# Altium footprint library dsub_pcb.PcbLib: 25 footprints (part 2 of 2)
Each footprint in its own frame and in the unit in brackets; x right, y up, seen from the top. Pads: shape width x height; smd on the part's side, far side on the other; paste and mask are expansions set on the pad; w line width, h text height; cw(c..) or ccw(c..) is an arc to the next point about the centre after c.
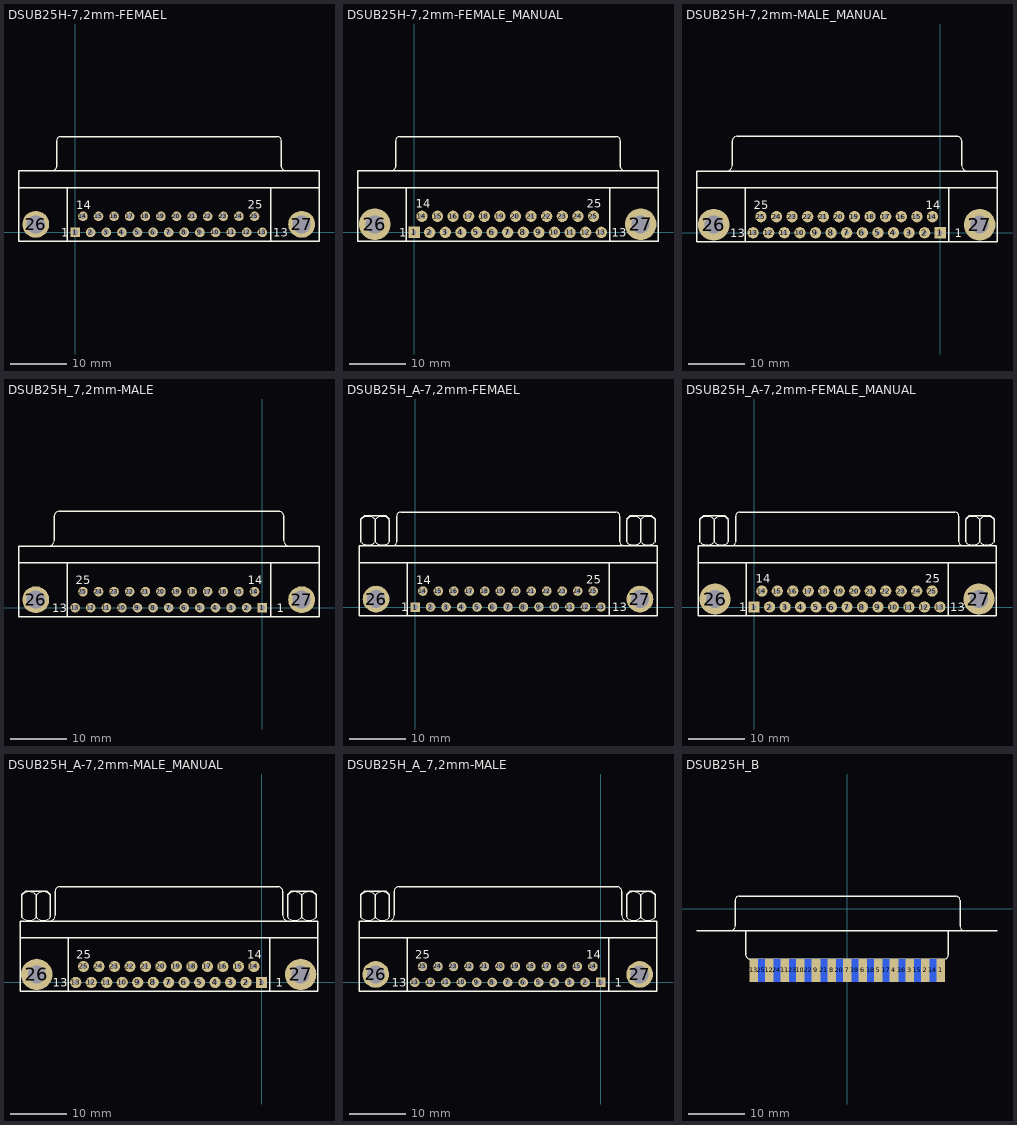
[diagram p1: the footprints below, top view; thin cyan lines are the x and y axes]

## DSUB25H-7,2mm-FEMAEL [mm]
height 12.55
pads (27):
  rect 1.7x1.7 hole 1: 1(0,0)
  round 1.7 hole 1: 2(2.761,0) 3(5.522,0) 4(8.283,0) 5(11.044,0) 6(13.805,0) 7(16.566,0) 8(19.327,0) 9(22.088,0) 10(24.849,0) 11(27.61,0) 12(30.371,0) 13(33.132,0) 14(1.381,2.84) 15(4.142,2.84) 16(6.903,2.84) 17(9.664,2.84) 18(12.424,2.84) 19(15.185,2.84) 20(17.946,2.84) 21(20.707,2.84) 22(23.469,2.84) 23(26.23,2.84) 24(28.991,2.84) 25(31.752,2.84)
  round 4.76 hole 3.2: 26(-6.96,1.42) 27(40.092,1.42)
Top Overlay:
  lines w0.2: -3.975,10.925 ccw(c-3.975,11.62) -3.28,11.62 ; -3.275,16.225 cw(c-2.58,16.225) -2.58,16.92 ; 35.82,16.92 cw(c35.82,16.225) 36.515,16.225 ; 36.52,11.62 ccw(c37.215,11.62) 37.215,10.925
  lines w0.254: -9.93,7.92 43.17,7.92 ; -3.28,11.62 -3.28,16.22 ; -2.58,16.92 35.82,16.92 ; -1.38,-1.58 -1.38,7.92 ; 34.62,-1.58 34.62,7.92 ; 36.52,11.62 36.52,16.22 ; -9.93,-1.58 43.17,-1.58 43.17,10.92 -9.93,10.92 -9.93,-1.58
  text "1" at -2.484,-0.764 h1.5
  text "13" at 35.108,-0.764 h1.5
  text "14" at 0.183,4.062 h1.5
  text "25" at 30.536,4.189 h1.5
3D body "D-Sub-K122439032-Stig-Wahlstrom.STEP": height 12.55, standoff -3.75, extent -9.991,-1.399 43.109,17.001

## DSUB25H-7,2mm-FEMALE_MANUAL [mm]
height 12.55
pads (27):
  rect 2x2 hole 0.8: 1(0,0)
  round 2 hole 0.8: 2(2.761,0) 3(5.522,0) 4(8.283,0) 5(11.044,0) 6(13.805,0) 7(16.566,0) 8(19.327,0) 9(22.088,0) 10(24.849,0) 11(27.61,0) 12(30.371,0) 13(33.132,0) 14(1.381,2.84) 15(4.142,2.84) 16(6.903,2.84) 17(9.664,2.84) 18(12.424,2.84) 19(15.185,2.84) 20(17.946,2.84) 21(20.707,2.84) 22(23.469,2.84) 23(26.23,2.84) 24(28.991,2.84) 25(31.752,2.84)
  round 5.6 hole 3.2: 26(-6.96,1.42) 27(40.092,1.42)
Top Overlay:
  lines w0.2: -3.975,10.925 ccw(c-3.975,11.62) -3.28,11.62 ; -3.275,16.225 cw(c-2.58,16.225) -2.58,16.92 ; 35.82,16.92 cw(c35.82,16.225) 36.515,16.225 ; 36.52,11.62 ccw(c37.215,11.62) 37.215,10.925
  lines w0.254: -9.93,7.92 43.17,7.92 ; -3.28,11.62 -3.28,16.22 ; -2.58,16.92 35.82,16.92 ; -1.38,-1.58 -1.38,7.92 ; 34.62,-1.58 34.62,7.92 ; 36.52,11.62 36.52,16.22 ; -9.93,-1.58 -9.93,10.92 43.17,10.92 43.17,-1.58 -9.93,-1.58
  text "25" at 30.536,4.316 h1.5
  text "14" at 0.31,4.316 h1.5
  text "13" at 34.981,-0.764 h1.5
  text "1" at -2.611,-0.764 h1.5
3D body "D-Sub-K122439032-Stig-Wahlstrom.STEP": height 12.55, standoff -3.75, extent -9.991,-1.399 43.109,17.001

## DSUB25H-7,2mm-MALE_MANUAL [mm]
height 12.55
pads (27):
  rect 2x2 hole 0.8: 1(0,0)
  round 2 hole 0.8: 2(-2.761,0) 3(-5.522,0) 4(-8.283,0) 5(-11.044,0) 6(-13.805,0) 7(-16.566,0) 8(-19.327,0) 9(-22.088,0) 10(-24.849,0) 11(-27.61,0) 12(-30.371,0) 13(-33.132,0) 14(-1.38,2.84) 15(-4.141,2.84) 16(-6.902,2.84) 17(-9.663,2.84) 18(-12.424,2.84) 19(-15.185,2.84) 20(-17.946,2.84) 21(-20.707,2.84) 22(-23.468,2.84) 23(-26.229,2.84) 24(-28.99,2.84) 25(-31.751,2.84)
  round 5.6 hole 3.2: 26(-40.092,1.42) 27(6.96,1.42)
Top Overlay:
  lines w0.2: -37.769,10.975 ccw(c-37.769,11.932) -36.812,11.932 ; -36.812,16.245 cw(c-35.997,16.245) -35.997,17.06 ; 2.965,17.06 cw(c2.965,16.245) 3.78,16.245 ; 3.78,11.932 ccw(c4.737,11.932) 4.737,10.975
  lines w0.254: -43.062,7.92 10.038,7.92 ; -36.812,11.932 -36.812,16.245 ; -35.997,17.047 3.034,17.047 ; -34.512,-1.58 -34.512,7.92 ; 1.488,-1.58 1.488,7.92 ; 3.78,11.932 3.78,16.245 ; -43.062,-1.58 10.038,-1.58 10.038,10.92 -43.062,10.92 -43.062,-1.58
  text "1" at 2.54,-0.762 h1.5
  text "13" at -37.211,-0.762 h1.5
  text "14" at -2.54,4.191 h1.5
  text "25" at -33.02,4.191 h1.5
3D body "D-Sub-K122439042-Stig-Wahlstrom.STEP": height 12.55, standoff -3.75, extent -43.116,-1.399 9.984,17.001

## DSUB25H_7,2mm-MALE [mm]
height 12.55
pads (27):
  rect 1.7x1.7 hole 1: 1(0,0)
  round 1.7 hole 1: 2(-2.761,0) 3(-5.522,0) 4(-8.283,0) 5(-11.044,0) 6(-13.805,0) 7(-16.566,0) 8(-19.327,0) 9(-22.088,0) 10(-24.849,0) 11(-27.61,0) 12(-30.371,0) 13(-33.132,0) 14(-1.38,2.84) 15(-4.141,2.84) 16(-6.902,2.84) 17(-9.663,2.84) 18(-12.424,2.84) 19(-15.185,2.84) 20(-17.946,2.84) 21(-20.707,2.84) 22(-23.468,2.84) 23(-26.229,2.84) 24(-28.99,2.84) 25(-31.751,2.84)
  round 4.76 hole 3.2: 26(-40.092,1.42) 27(6.96,1.42)
Top Overlay:
  lines w0.2: -37.769,10.975 ccw(c-37.769,11.932) -36.812,11.932 ; -36.812,16.245 cw(c-35.997,16.245) -35.997,17.06 ; 2.965,17.06 cw(c2.965,16.245) 3.78,16.245 ; 3.78,11.932 ccw(c4.737,11.932) 4.737,10.975
  lines w0.254: -43.062,7.92 10.038,7.92 ; -36.812,11.932 -36.812,16.245 ; -35.997,17.047 3.034,17.047 ; -34.512,-1.58 -34.512,7.92 ; 1.488,-1.58 1.488,7.92 ; 3.78,11.932 3.78,16.245 ; -43.062,-1.58 10.038,-1.58 10.038,10.92 -43.062,10.92 -43.062,-1.58
  text "1" at 2.54,-0.762 h1.5
  text "13" at -37.211,-0.762 h1.5
  text "14" at -2.54,4.191 h1.5
  text "25" at -33.02,4.191 h1.5
3D body "D-Sub-K122439042-Stig-Wahlstrom.STEP": height 12.55, standoff -3.75, extent -43.116,-1.399 9.984,17.001

## DSUB25H_A-7,2mm-FEMAEL [mm]
height 12.55
pads (27):
  rect 1.7x1.7 hole 1: 1(0,0)
  round 1.7 hole 1: 2(2.761,0) 3(5.522,0) 4(8.283,0) 5(11.044,0) 6(13.805,0) 7(16.566,0) 8(19.327,0) 9(22.088,0) 10(24.849,0) 11(27.61,0) 12(30.371,0) 13(33.132,0) 14(1.381,2.84) 15(4.142,2.84) 16(6.903,2.84) 17(9.664,2.84) 18(12.424,2.84) 19(15.185,2.84) 20(17.946,2.84) 21(20.707,2.84) 22(23.469,2.84) 23(26.23,2.84) 24(28.991,2.84) 25(31.752,2.84)
  round 4.76 hole 3.2: 26(-6.96,1.42) 27(40.092,1.42)
Top Overlay:
  lines w0.2: -3.975,10.925 ccw(c-3.975,11.62) -3.28,11.62 ; -3.275,16.225 cw(c-2.58,16.225) -2.58,16.92 ; 35.82,16.92 cw(c35.82,16.225) 36.515,16.225 ; 36.52,11.62 ccw(c37.215,11.62) 37.215,10.925
  lines w0.203: -9.65,11.592 ccw(c-8.378,12.864) -7.106,11.592 ; -9.648,15.61 cw(c-8.376,14.338) -7.103,15.61 ; -7.112,15.61 cw(c-5.84,14.338) -4.568,15.61 ; -7.11,11.592 ccw(c-5.838,12.864) -4.566,11.592 ; 37.698,11.592 ccw(c38.97,12.864) 40.242,11.592 ; 37.7,15.61 cw(c38.972,14.338) 40.244,15.61 ; 40.235,15.61 cw(c41.508,14.338) 42.78,15.61 ; 40.238,11.592 ccw(c41.51,12.864) 42.782,11.592
  lines w0.254: -9.93,7.92 43.17,7.92 ; -9.648,11.594 -9.648,15.619 ; -9.648,15.625 -9.013,16.26 -5.203,16.26 -4.568,15.625 ; -7.108,11.594 -7.108,15.619 ; -4.568,11.594 -4.568,15.594 ; -3.28,11.62 -3.28,16.22 ; -2.58,16.92 35.82,16.92 ; -1.38,-1.58 -1.38,7.92 ; 34.62,-1.58 34.62,7.92 ; 36.52,11.62 36.52,16.22 ; 37.7,11.594 37.7,15.594 ; 37.7,15.625 38.335,16.26 42.145,16.26 42.78,15.625 ; 40.24,11.594 40.24,15.619 ; 42.78,11.594 42.78,15.619 ; -9.93,-1.58 43.17,-1.58 43.17,10.92 -9.93,10.92 -9.93,-1.58
  text "1" at -2.484,-0.764 h1.5
  text "13" at 35.108,-0.764 h1.5
  text "14" at 0.183,4.062 h1.5
  text "25" at 30.536,4.189 h1.5
3D body "D-Sub-K122439032-Stig-Wahlstrom.STEP": height 12.55, standoff -3.75, extent -9.991,-1.399 43.109,17.001

## DSUB25H_A-7,2mm-FEMALE_MANUAL [mm]
height 12.55
pads (27):
  rect 2x2 hole 0.8: 1(0,0)
  round 2 hole 0.8: 2(2.761,0) 3(5.522,0) 4(8.283,0) 5(11.044,0) 6(13.805,0) 7(16.566,0) 8(19.327,0) 9(22.088,0) 10(24.849,0) 11(27.61,0) 12(30.371,0) 13(33.132,0) 14(1.381,2.84) 15(4.142,2.84) 16(6.903,2.84) 17(9.664,2.84) 18(12.424,2.84) 19(15.185,2.84) 20(17.946,2.84) 21(20.707,2.84) 22(23.469,2.84) 23(26.23,2.84) 24(28.991,2.84) 25(31.752,2.84)
  round 5.6 hole 3.2: 26(-6.96,1.42) 27(40.092,1.42)
Top Overlay:
  lines w0.2: -3.975,10.925 ccw(c-3.975,11.62) -3.28,11.62 ; -3.275,16.225 cw(c-2.58,16.225) -2.58,16.92 ; 35.82,16.92 cw(c35.82,16.225) 36.515,16.225 ; 36.52,11.62 ccw(c37.215,11.62) 37.215,10.925
  lines w0.203: -9.65,11.592 ccw(c-8.378,12.864) -7.106,11.592 ; -9.648,15.61 cw(c-8.376,14.338) -7.103,15.61 ; -7.112,15.61 cw(c-5.84,14.338) -4.568,15.61 ; -7.11,11.592 ccw(c-5.838,12.864) -4.566,11.592 ; 37.698,11.592 ccw(c38.97,12.864) 40.242,11.592 ; 37.7,15.61 cw(c38.972,14.338) 40.244,15.61 ; 40.235,15.61 cw(c41.508,14.338) 42.78,15.61 ; 40.238,11.592 ccw(c41.51,12.864) 42.782,11.592
  lines w0.254: -9.93,7.92 43.17,7.92 ; -9.648,11.594 -9.648,15.619 ; -9.648,15.625 -9.013,16.26 -5.203,16.26 -4.568,15.625 ; -7.108,11.594 -7.108,15.619 ; -4.568,11.594 -4.568,15.594 ; -3.28,11.62 -3.28,16.22 ; -2.58,16.92 35.82,16.92 ; -1.38,-1.58 -1.38,7.92 ; 34.62,-1.58 34.62,7.92 ; 36.52,11.62 36.52,16.22 ; 37.7,11.594 37.7,15.594 ; 37.7,15.625 38.335,16.26 42.145,16.26 42.78,15.625 ; 40.24,11.594 40.24,15.619 ; 42.78,11.594 42.78,15.619 ; -9.93,-1.58 -9.93,10.92 43.17,10.92 43.17,-1.58 -9.93,-1.58
  text "25" at 30.536,4.316 h1.5
  text "14" at 0.31,4.316 h1.5
  text "13" at 34.981,-0.764 h1.5
  text "1" at -2.611,-0.764 h1.5
3D body "D-Sub-K122439032-Stig-Wahlstrom.STEP": height 12.55, standoff -3.75, extent -9.991,-1.399 43.109,17.001

## DSUB25H_A-7,2mm-MALE_MANUAL [mm]
height 12.55
pads (27):
  rect 2x2 hole 0.8: 1(0,0)
  round 2 hole 0.8: 2(-2.761,0) 3(-5.522,0) 4(-8.283,0) 5(-11.044,0) 6(-13.805,0) 7(-16.566,0) 8(-19.327,0) 9(-22.088,0) 10(-24.849,0) 11(-27.61,0) 12(-30.371,0) 13(-33.132,0) 14(-1.38,2.84) 15(-4.141,2.84) 16(-6.902,2.84) 17(-9.663,2.84) 18(-12.424,2.84) 19(-15.185,2.84) 20(-17.946,2.84) 21(-20.707,2.84) 22(-23.468,2.84) 23(-26.229,2.84) 24(-28.99,2.84) 25(-31.751,2.84)
  round 5.6 hole 3.2: 26(-40.092,1.42) 27(6.96,1.42)
Top Overlay:
  lines w0.2: -37.769,10.975 ccw(c-37.769,11.932) -36.812,11.932 ; -36.812,16.245 cw(c-35.997,16.245) -35.997,17.06 ; 2.965,17.06 cw(c2.965,16.245) 3.78,16.245 ; 3.78,11.932 ccw(c4.737,11.932) 4.737,10.975
  lines w0.203: -42.726,11.594 ccw(c-41.454,12.866) -40.182,11.594 ; -42.724,15.612 cw(c-41.452,14.34) -40.179,15.612 ; -40.188,15.612 cw(c-38.916,14.34) -37.644,15.612 ; -40.186,11.594 ccw(c-38.914,12.866) -37.642,11.594 ; 4.622,11.594 ccw(c5.894,12.866) 7.166,11.594 ; 4.624,15.612 cw(c5.896,14.34) 7.168,15.612 ; 7.159,15.612 cw(c8.432,14.34) 9.704,15.612 ; 7.162,11.594 ccw(c8.434,12.866) 9.706,11.594
  lines w0.254: -43.062,7.92 10.038,7.92 ; -42.724,11.596 -42.724,15.621 ; -42.724,15.627 -42.089,16.262 -38.279,16.262 -37.644,15.627 ; -40.184,11.596 -40.184,15.621 ; -37.644,11.596 -37.644,15.596 ; -36.812,11.932 -36.812,16.245 ; -35.997,17.047 3.034,17.047 ; -34.512,-1.58 -34.512,7.92 ; 1.488,-1.58 1.488,7.92 ; 3.78,11.932 3.78,16.245 ; 4.624,11.596 4.624,15.596 ; 4.624,15.627 5.259,16.262 9.069,16.262 9.704,15.627 ; 7.164,11.596 7.164,15.621 ; 9.704,11.596 9.704,15.621 ; -43.062,-1.58 -43.062,10.92 10.038,10.92 10.038,-1.58 -43.062,-1.58
  text "25" at -33.02,4.191 h1.5
  text "14" at -2.54,4.191 h1.5
  text "13" at -37.211,-0.762 h1.5
  text "1" at 2.54,-0.762 h1.5
3D body "D-Sub-K122439042-Stig-Wahlstrom.STEP": height 12.55, standoff -3.75, extent -43.116,-1.399 9.984,17.001

## DSUB25H_A_7,2mm-MALE [mm]
height 12.55
pads (27):
  rect 1.7x1.7 hole 1: 1(0,0)
  round 1.7 hole 1: 2(-2.761,0) 3(-5.522,0) 4(-8.283,0) 5(-11.044,0) 6(-13.805,0) 7(-16.566,0) 8(-19.327,0) 9(-22.088,0) 10(-24.849,0) 11(-27.61,0) 12(-30.371,0) 13(-33.132,0) 14(-1.38,2.84) 15(-4.141,2.84) 16(-6.902,2.84) 17(-9.663,2.84) 18(-12.424,2.84) 19(-15.185,2.84) 20(-17.946,2.84) 21(-20.707,2.84) 22(-23.468,2.84) 23(-26.229,2.84) 24(-28.99,2.84) 25(-31.751,2.84)
  round 4.76 hole 3.2: 26(-40.092,1.42) 27(6.96,1.42)
Top Overlay:
  lines w0.2: -37.769,10.975 ccw(c-37.769,11.932) -36.812,11.932 ; -36.812,16.245 cw(c-35.997,16.245) -35.997,17.06 ; 2.965,17.06 cw(c2.965,16.245) 3.78,16.245 ; 3.78,11.932 ccw(c4.737,11.932) 4.737,10.975
  lines w0.203: -42.726,11.594 ccw(c-41.454,12.866) -40.182,11.594 ; -42.724,15.612 cw(c-41.452,14.34) -40.179,15.612 ; -40.188,15.612 cw(c-38.916,14.34) -37.644,15.612 ; -40.186,11.594 ccw(c-38.914,12.866) -37.642,11.594 ; 4.622,11.594 ccw(c5.894,12.866) 7.166,11.594 ; 4.624,15.612 cw(c5.896,14.34) 7.168,15.612 ; 7.159,15.612 cw(c8.432,14.34) 9.704,15.612 ; 7.162,11.594 ccw(c8.434,12.866) 9.706,11.594
  lines w0.254: -43.062,7.92 10.038,7.92 ; -42.724,11.596 -42.724,15.621 ; -42.724,15.627 -42.089,16.262 -38.279,16.262 -37.644,15.627 ; -40.184,11.596 -40.184,15.621 ; -37.644,11.596 -37.644,15.596 ; -36.812,11.932 -36.812,16.245 ; -35.997,17.047 3.034,17.047 ; -34.512,-1.58 -34.512,7.92 ; 1.488,-1.58 1.488,7.92 ; 3.78,11.932 3.78,16.245 ; 4.624,11.596 4.624,15.596 ; 4.624,15.627 5.259,16.262 9.069,16.262 9.704,15.627 ; 7.164,11.596 7.164,15.621 ; 9.704,11.596 9.704,15.621 ; -43.062,-1.58 -43.062,10.92 10.038,10.92 10.038,-1.58 -43.062,-1.58
  text "25" at -33.02,4.191 h1.5
  text "14" at -2.54,4.191 h1.5
  text "13" at -37.211,-0.762 h1.5
  text "1" at 2.54,-0.762 h1.5
3D body "D-Sub-K122439042-Stig-Wahlstrom.STEP": height 12.55, standoff -3.75, extent -43.116,-1.399 9.984,17.001

## DSUB25H_B [mm]
pads (25):
  rect 1.524x4 smd: 1(16.566,-10.92) 2(13.805,-10.92) 3(11.044,-10.92) 4(8.283,-10.92) 5(5.522,-10.92) 6(2.761,-10.92) 7(0,-10.92) 8(-2.761,-10.92) 9(-5.522,-10.92) 10(-8.283,-10.92) 11(-11.044,-10.92) 12(-13.805,-10.92) 13(-16.566,-10.92)
  rect 1.524x4 smd far side: 14(15.186,-10.92) 15(12.425,-10.92) 16(9.664,-10.92) 17(6.903,-10.92) 18(4.142,-10.92) 19(1.381,-10.92) 20(-1.38,-10.92) 21(-4.141,-10.92) 22(-6.902,-10.92) 23(-9.663,-10.92) 24(-12.424,-10.92) 25(-15.185,-10.92)
Top Overlay:
  lines w0.2: -20.609,-3.845 ccw(c-20.609,-3.048) -19.812,-3.048 ; -19.812,1.524 cw(c-19.117,1.524) -19.117,2.219 ; -17.925,-8.204 ccw(c-17.23,-8.204) -17.23,-8.899 ; 17.187,-8.899 ccw(c17.187,-8.204) 17.882,-8.204 ; 19.299,2.21 cw(c19.299,1.537) 19.972,1.537 ; 19.972,-3.063 ccw(c20.758,-3.063) 20.758,-3.849
  lines w0.254: -26.582,-3.861 26.518,-3.861 ; -19.812,-3.048 -19.812,1.552 ; -19.101,2.21 19.299,2.21 ; -17.932,-8.255 -17.932,-3.861 ; -17.23,-8.899 17.187,-8.899 ; 17.882,-8.23 17.882,-3.861 ; 19.972,-3.063 19.972,1.537